# Altium schematic symbol library BH1750.SchLib: 1 symbol
Pins are listed as number, name and electrical type; pins without a type are passive.

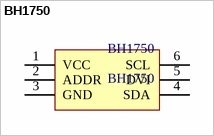
[diagram p0: symbol BH1750]

## BH1750
designator BH1750
footprint BH1750FVI
pins: 1 VCC, 2 ADDR, 3 GND, 4 SDA, 5 DVI, 6 SCL